# EAGLE library part EL7156CSZ (library Intersil_By_element14_Batch_1)
High Performance Pin Driver
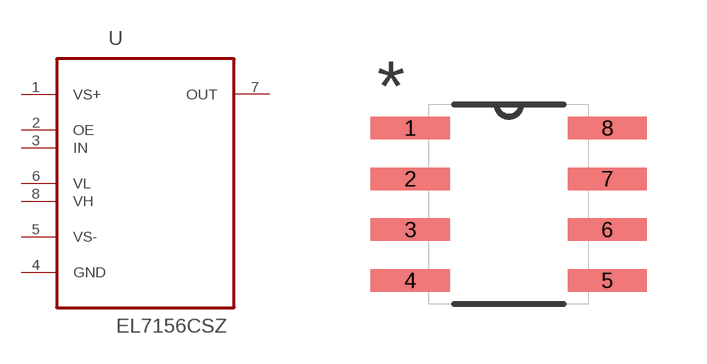
[diagram p67: symbol with the pads of SOIC127P600X175-8N; footprint SOIC127P600X175-8N]

Designator prefix U

## EL7156CSZ (MPN: EL7156CSZ; OC_FARNELL: 1561943; OC_NEWARK: 61J5662; PACKAGE: SOIC-8; SUPPLIER: INTERSIL)  [SOIC127P600X175-8N]
1  VS+  pwr
2  OE  in
3  IN  in
4  GND  pas
5  VS-  pwr
6  VL  in
7  OUT  out
8  VH  in

## Footprint SOIC127P600X175-8N (pad centres in mm)
smd 1.981 x 0.559: 1 -2.464,1.905; 2 -2.464,0.635; 3 -2.464,-0.635; 4 -2.464,-1.905; 5 2.464,-1.905; 6 2.464,-0.635; 7 2.464,0.635; 8 2.464,1.905